# Altium footprint library ST Microelectronics STM32 G0.PcbLib: 22 footprints (part 2 of 2)
Each footprint in its own frame and in the unit in brackets; x right, y up, seen from the top. Pads: shape width x height; smd on the part's side, far side on the other; paste and mask are expansions set on the pad; w line width, h text height; cw(c..) or ccw(c..) is an arc to the next point about the centre after c.
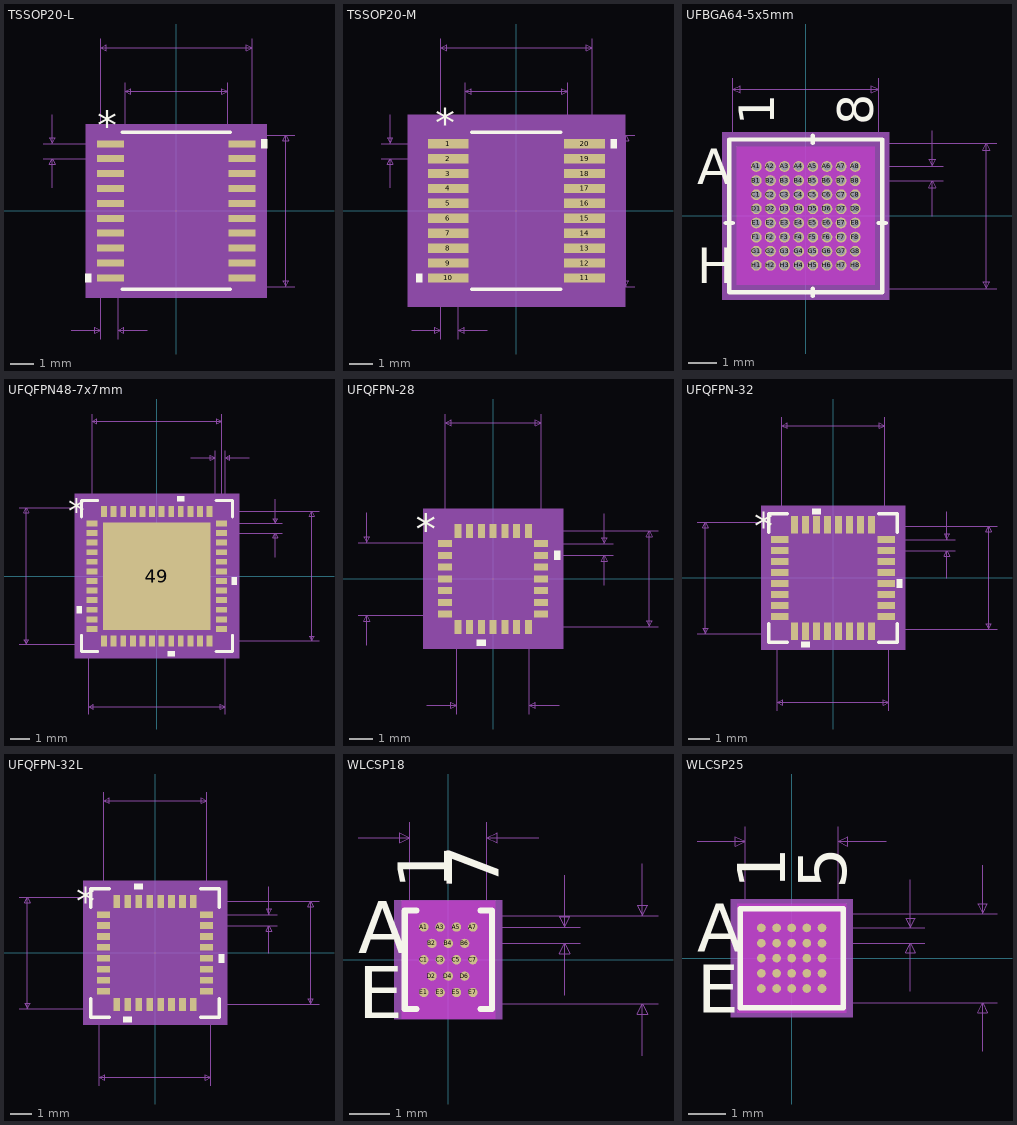
[diagram p1: the footprints below, top view; thin cyan lines are the x and y axes]

## TSSOP20-L [mil] "STM32 package, TSSOP20, 6.4 x 4.4mm"
pads (20):
  rect 46x12 smd paste+0 mask+0: 1(-113,115.16) 2(-113,89.57) 3(-113,63.98) 4(-113,38.39) 5(-113,12.8) 6(-113,-12.8) 7(-113,-38.39) 8(-113,-63.98) 9(-113,-89.57) 10(-113,-115.16) 11(113,-115.16) 12(113,-89.57) 13(113,-63.98) 14(113,-38.39) 15(113,-12.8) 16(113,12.8) 17(113,38.39) 18(113,63.98) 19(113,89.57) 20(113,115.16)
Top Overlay:
  region: 146,122.66 156,122.66 156,107.66 146,107.66
  region: -146,-107.66 -156,-107.66 -156,-122.66 -146,-122.66
  lines w6: -93,-135 93,-135 ; -93,135 93,135
  text "*" at -135.5,122.16 h50
Mechanical 5:
  region: 155,-149 -155,-149 -155,149 155,149
Mechanical 7:
  lines w1: -228,89.57 -113,89.57 ; -228,115.16 -113,115.16 ; -213,39.57 -213,89.57 ; -213,165.16 -213,115.16 ; -180,-205 -130,-205 ; -130,-220 -130,0 -130,295 ; -100,-220 -100,0 ; -88,0 -88,220 ; -50,-205 -100,-205 ; 0,-130 203,-130 ; 0,130 203,130 ; 88,0 88,220 ; 130,0 130,295 ; -213,89.57 -208,79.57 -218,79.57 -213,89.57 ; -213,115.16 -208,125.16 -218,125.16 -213,115.16 ; -130,-205 -140,-210 -140,-200 -130,-205 ; -130,280 -120,275 -120,285 -130,280 ; -130,280 130,280 ; -100,-205 -90,-210 -90,-200 -100,-205 ; -88,205 -78,200 -78,210 -88,205 ; -88,205 88,205 ; 88,205 78,200 78,210 88,205 ; 130,280 120,275 120,285 130,280 ; 188,-130 193,-120 183,-120 188,-130 ; 188,-130 188,130 ; 188,130 193,120 183,120 188,130
  text "0.03in/0.762mm" at -202.5,-250 h25
  text "0.026in/0.65mm" at -408,89.86 h25
  text "0.26in/6.604mm" at 208,-12.5 h25
  text "0.26in/6.604mm" at -87.5,300 h25
  text "0.176in/4.47mm" at -87.5,225 h25
  text "Alt 2 Padstyle: OX90Y60D30P" at -337.5,-630 h50
  text "Alt 1 Padstyle: OX60Y90D30P" at -337.5,-570 h50
  text "Pin One Padstyle: RX46Y12D0T" at -350,-390 h50
  text "Default Padstyle: RX46Y12D0T" at -350,-330 h50
Mechanical 13:
  lines w0: -12,130 ccw(c0,130) 12,130
  lines w1: -130,-121.16 -88,-121.16 -88,-109.16 -130,-109.16 -130,-121.16 ; -130,-95.57 -88,-95.57 -88,-83.57 -130,-83.57 -130,-95.57 ; -130,-69.98 -88,-69.98 -88,-57.98 -130,-57.98 -130,-69.98 ; -130,-44.39 -88,-44.39 -88,-32.39 -130,-32.39 -130,-44.39 ; -130,-18.8 -88,-18.8 -88,-6.8 -130,-6.8 -130,-18.8 ; -130,6.8 -88,6.8 -88,18.8 -130,18.8 -130,6.8 ; -130,32.39 -88,32.39 -88,44.39 -130,44.39 -130,32.39 ; -130,57.98 -88,57.98 -88,69.98 -130,69.98 -130,57.98 ; -130,83.57 -88,83.57 -88,95.57 -130,95.57 -130,83.57 ; -130,109.16 -88,109.16 -88,121.16 -130,121.16 -130,109.16 ; -88,-130 -88,130 88,130 88,-130 -88,-130 ; 88,-121.16 130,-121.16 130,-109.16 88,-109.16 88,-121.16 ; 88,-95.57 130,-95.57 130,-83.57 88,-83.57 88,-95.57 ; 88,-69.98 130,-69.98 130,-57.98 88,-57.98 88,-69.98 ; 88,-44.39 130,-44.39 130,-32.39 88,-32.39 88,-44.39 ; 88,-18.8 130,-18.8 130,-6.8 88,-6.8 88,-18.8 ; 88,6.8 130,6.8 130,18.8 88,18.8 88,6.8 ; 88,32.39 130,32.39 130,44.39 88,44.39 88,32.39 ; 88,57.98 130,57.98 130,69.98 88,69.98 88,57.98 ; 88,83.57 130,83.57 130,95.57 88,95.57 88,83.57 ; 88,109.16 130,109.16 130,121.16 88,121.16 88,109.16
  text "*" at -85.5,77 h50
Mechanical 15:
  region: -92,-125.16 -140,-125.16 -140,125.16 -92,125.16 -92,134 92,134 92,125.16 140,125.16 140,-125.16 92,-125.16 92,-134 -92,-134
  lines w6: -140,-125.16 -92,-125.16 -92,-134 92,-134 92,-125.16 140,-125.16 140,125.16 92,125.16 92,134 -92,134 -92,125.16 -140,125.16 -140,-125.16
3D body "TSSOP20-L.step": height 47.09, standoff 0, extent -129.99,-129.99 130.01,130.01
3D body: height 10, standoff 0, extent 0,0 10,10

## TSSOP20-M [mil] "STM32 package, TSSOP20, 6.4 x 4.4mm"
pads (20):
  rect 70x16 smd paste+0 mask+0: 1(-117,115.16) 2(-117,89.57) 3(-117,63.98) 4(-117,38.39) 5(-117,12.8) 6(-117,-12.8) 7(-117,-38.39) 8(-117,-63.98) 9(-117,-89.57) 10(-117,-115.16) 11(117,-115.16) 12(117,-89.57) 13(117,-63.98) 14(117,-38.39) 15(117,-12.8) 16(117,12.8) 17(117,38.39) 18(117,63.98) 19(117,89.57) 20(117,115.16)
Top Overlay:
  region: -162,-107.66 -172,-107.66 -172,-122.66 -162,-122.66
  region: 162,122.66 172,122.66 172,107.66 162,107.66
  lines w6: -76.4,-135 76.4,-135 ; -76.4,135 76.4,135
  text "*" at -139.5,126.16 h50
Mechanical 5:
  region: 187,-165 -187,-165 -187,165 187,165
Mechanical 7:
  lines w1: -232,89.57 -117,89.57 ; -232,115.16 -117,115.16 ; -217,39.57 -217,89.57 ; -217,165.16 -217,115.16 ; -180,-205 -130,-205 ; -130,-220 -130,0 -130,295 ; -100,-220 -100,0 ; -88,0 -88,220 ; -50,-205 -100,-205 ; 0,-130 203,-130 ; 0,130 203,130 ; 88,0 88,220 ; 130,0 130,295 ; -217,89.57 -222,79.57 -212,79.57 -217,89.57 ; -217,115.16 -222,125.16 -212,125.16 -217,115.16 ; -130,-205 -140,-200 -140,-210 -130,-205 ; -130,280 130,280 ; -130,280 -120,285 -120,275 -130,280 ; -100,-205 -90,-200 -90,-210 -100,-205 ; -88,205 88,205 ; -88,205 -78,210 -78,200 -88,205 ; 88,205 78,210 78,200 88,205 ; 130,280 120,285 120,275 130,280 ; 188,-130 188,130 ; 188,-130 183,-120 193,-120 188,-130 ; 188,130 183,120 193,120 188,130
  text "Default Padstyle: RX70Y16D0T" at -350,-330 h50
  text "Pin One Padstyle: RX70Y16D0T" at -350,-390 h50
  text "Alt 1 Padstyle: OX60Y90D30P" at -337.5,-570 h50
  text "Alt 2 Padstyle: OX90Y60D30P" at -337.5,-630 h50
  text "0.176in/4.47mm" at -87.5,225 h25
  text "0.26in/6.604mm" at -87.5,300 h25
  text "0.26in/6.604mm" at 208,-12.5 h25
  text "0.026in/0.65mm" at -412,89.86 h25
  text "0.03in/0.762mm" at -202.5,-250 h25
Mechanical 13:
  lines w0: -12,130 ccw(c0,130) 12,130
  lines w1: -130,-121.16 -130,-109.16 -88,-109.16 -88,-121.16 -130,-121.16 ; -130,-95.57 -130,-83.57 -88,-83.57 -88,-95.57 -130,-95.57 ; -130,-69.98 -130,-57.98 -88,-57.98 -88,-69.98 -130,-69.98 ; -130,-44.39 -130,-32.39 -88,-32.39 -88,-44.39 -130,-44.39 ; -130,-18.8 -130,-6.8 -88,-6.8 -88,-18.8 -130,-18.8 ; -130,6.8 -130,18.8 -88,18.8 -88,6.8 -130,6.8 ; -130,32.39 -130,44.39 -88,44.39 -88,32.39 -130,32.39 ; -130,57.98 -130,69.98 -88,69.98 -88,57.98 -130,57.98 ; -130,83.57 -130,95.57 -88,95.57 -88,83.57 -130,83.57 ; -130,109.16 -130,121.16 -88,121.16 -88,109.16 -130,109.16 ; -88,-130 88,-130 88,130 -88,130 -88,-130 ; 88,-121.16 88,-109.16 130,-109.16 130,-121.16 88,-121.16 ; 88,-95.57 88,-83.57 130,-83.57 130,-95.57 88,-95.57 ; 88,-69.98 88,-57.98 130,-57.98 130,-69.98 88,-69.98 ; 88,-44.39 88,-32.39 130,-32.39 130,-44.39 88,-44.39 ; 88,-18.8 88,-6.8 130,-6.8 130,-18.8 88,-18.8 ; 88,6.8 88,18.8 130,18.8 130,6.8 88,6.8 ; 88,32.39 88,44.39 130,44.39 130,32.39 88,32.39 ; 88,57.98 88,69.98 130,69.98 130,57.98 88,57.98 ; 88,83.57 88,95.57 130,95.57 130,83.57 88,83.57 ; 88,109.16 88,121.16 130,121.16 130,109.16 88,109.16
  text "*" at -85.5,77 h50
Mechanical 15:
  region: -108,-143.16 -172,-143.16 -172,143.16 -108,143.16 -108,150 108,150 108,143.16 172,143.16 172,-143.16 108,-143.16 108,-150 -108,-150
  lines w6: -172,-143.16 -172,143.16 -108,143.16 -108,150 108,150 108,143.16 172,143.16 172,-143.16 108,-143.16 108,-150 -108,-150 -108,-143.16 -172,-143.16
3D body: height 10, standoff 0, extent 0,0 10,10
3D body "TSSOP20-M.step": height 47.09, standoff 0, extent -129.99,-129.99 130.01,130.01

## UFBGA64-5x5mm [mil] "STM32 package, UFBGA64, 5 x 5mm"
pads (64):
  round 15 hole 11 mask+0: A1(-68.9,68.9) A2(-49.21,68.9) A3(-29.53,68.9) A4(-9.84,68.9) A5(9.84,68.9) A6(29.53,68.9) A7(49.21,68.9) A8(68.9,68.9) B1(-68.9,49.21) B2(-49.21,49.21) B3(-29.53,49.21) B4(-9.84,49.21) B5(9.84,49.21) B6(29.53,49.21) B7(49.21,49.21) B8(68.9,49.21) C1(-68.9,29.53) C2(-49.21,29.53) C3(-29.53,29.53) C4(-9.84,29.53) C5(9.84,29.53) C6(29.53,29.53) C7(49.21,29.53) C8(68.9,29.53) D1(-68.9,9.84) D2(-49.21,9.84) D3(-29.53,9.84) D4(-9.84,9.84) D5(9.84,9.84) D6(29.53,9.84) D7(49.21,9.84) D8(68.9,9.84) E1(-68.9,-9.84) E2(-49.21,-9.84) E3(-29.53,-9.84) E4(-9.84,-9.84) E5(9.84,-9.84) E6(29.53,-9.84) E7(49.21,-9.84) E8(68.9,-9.84) F1(-68.9,-29.53) F2(-49.21,-29.53) F3(-29.53,-29.53) F4(-9.84,-29.53) F5(9.84,-29.53) F6(29.53,-29.53) F7(49.21,-29.53) F8(68.9,-29.53) G1(-68.9,-49.21) G2(-49.21,-49.21) G3(-29.53,-49.21) G4(-9.84,-49.21) G5(9.84,-49.21) G6(29.53,-49.21) G7(49.21,-49.21) G8(68.9,-49.21) H1(-68.9,-68.9) H2(-49.21,-68.9) H3(-29.53,-68.9) H4(-9.84,-68.9) H5(9.84,-68.9) H6(29.53,-68.9) H7(49.21,-68.9) H8(68.9,-68.9)
Top Overlay:
  lines w6: -111.5,-9.84 -101.5,-9.84 ; 9.84,-111.5 9.84,-101.5 ; 9.84,101.5 9.84,111.5 ; 101.5,-9.84 111.5,-9.84 ; -106.5,-106.5 -106.5,106.5 106.5,106.5 106.5,-106.5 -106.5,-106.5
  text "8" at 93.9,126.5 h50
  text "1" at -43.9,126.5 h50
  text "H" at -151.5,-93.9 h50
  text "A" at -151.5,43.9 h50
Bottom Overlay:
  text "8" at 43.9,126.5 h50
  text "1" at -93.9,126.5 h50
  text "H" at -126.5,-93.9 h50
  text "A" at -126.5,43.9 h50
Keep-Out Layer:
  region: -96.24,-96.24 -96.24,96.24 96.24,96.24 96.24,-96.24
Mechanical 5:
  region: 116.5,-116.5 -116.5,-116.5 -116.5,116.5 116.5,116.5
Mechanical 7:
  lines w1: -101.5,0 -101.5,191.5 ; 0,-101.5 266.5,-101.5 ; 0,101.5 266.5,101.5 ; 68.9,49.21 191.5,49.21 ; 68.9,68.9 191.5,68.9 ; 101.5,0 101.5,191.5 ; 176.5,-0.79 176.5,49.21 ; 176.5,118.9 176.5,68.9 ; -101.5,176.5 -91.5,171.5 -91.5,181.5 -101.5,176.5 ; -101.5,176.5 101.5,176.5 ; 101.5,176.5 91.5,171.5 91.5,181.5 101.5,176.5 ; 176.5,49.21 181.5,39.21 171.5,39.21 176.5,49.21 ; 176.5,68.9 181.5,78.9 171.5,78.9 176.5,68.9 ; 251.5,-101.5 256.5,-91.5 246.5,-91.5 251.5,-101.5 ; 251.5,-101.5 251.5,101.5 ; 251.5,101.5 256.5,91.5 246.5,91.5 251.5,101.5
  text "0.203in/5.156mm" at 271.5,-12.5 h25
  text "0.203in/5.156mm" at -93.75,196.5 h25
  text "0.02in/0.5mm" at 196.5,46.56 h25
  text "Default Padstyle: EX15Y15D11P" at -362.5,-301.5 h50
Mechanical 13:
  lines w1: -101.5,91.66 -91.66,101.5 ; -101.5,-101.5 -101.5,101.5 101.5,101.5 101.5,-101.5 -101.5,-101.5
  text "8" at 93.9,126.5 h50
  text "1" at -43.9,126.5 h50
  text "H" at -151.5,-93.9 h50
  text "A" at -151.5,43.9 h50
Mechanical 15:
  region: 111.5,-111.5 -111.5,-111.5 -111.5,111.5 111.5,111.5
  lines w6: -111.5,-111.5 111.5,-111.5 111.5,111.5 -111.5,111.5 -111.5,-111.5
3D body "UFBGA64-5x5mm.step": height 24.09, standoff -0.02, extent -101.49,-101.49 101.5,101.5
3D body: height 10, standoff 0, extent 0,0 10,10

## UFQFPN48-7x7mm [mil] "STM32 package, UFQFPN48, 7 x 7mm"
pads (49):
  rect 22x12 smd: 1(-132.87,108.3) 2(-132.87,88.61) 3(-132.87,68.92) 4(-132.87,49.23) 5(-132.87,29.54) 6(-132.87,9.85) 7(-132.87,-9.85) 8(-132.87,-29.54) 9(-132.87,-49.23) 10(-132.87,-68.92) 11(-132.87,-88.61) 12(-132.87,-108.3) 25(132.87,-108.3) 26(132.87,-88.61) 27(132.87,-68.92) 28(132.87,-49.23) 29(132.87,-29.54) 30(132.87,-9.85) 31(132.87,9.85) 32(132.87,29.54) 33(132.87,49.23) 34(132.87,68.92) 35(132.87,88.61) 36(132.87,108.3)
  rect 12x22 smd: 13(-108.3,-132.87) 14(-88.61,-132.87) 15(-68.92,-132.87) 16(-49.23,-132.87) 17(-29.54,-132.87) 18(-9.85,-132.87) 19(9.85,-132.87) 20(29.54,-132.87) 21(49.23,-132.87) 22(68.92,-132.87) 23(88.61,-132.87) 24(108.3,-132.87) 37(108.3,132.87) 38(88.61,132.87) 39(68.92,132.87) 40(49.23,132.87) 41(29.54,132.87) 42(9.85,132.87) 43(-9.85,132.87) 44(-29.54,132.87) 45(-49.23,132.87) 46(-68.92,132.87) 47(-88.61,132.87) 48(-108.3,132.87)
  rect 220x220 smd paste-110: 49(0,0)
Top Overlay:
  region: 56.73,153.87 41.73,153.87 41.73,163.87 56.73,163.87
  region: 153.87,-2.35 163.87,-2.35 163.87,-17.34 153.87,-17.34
  region: 37.03,-153.87 22.04,-153.87 22.04,-163.87 37.03,-163.87
  region: -153.87,-61.41 -163.87,-61.41 -163.87,-76.42 -153.87,-76.42
  lines w6: -155,-121.21 -155,-155 -121.21,-155 ; -155,121.21 -155,155 -121.21,155 ; 121.21,-155 155,-155 155,-121.21 ; 121.21,155 155,155 155,121.21
  text "*" at -181.37,108.14 h50
Top Paste:
  drawing of 64 lines, arcs and shapes, not listed
Top Solder:
  drawing of 48 lines, arcs and shapes, not listed
Mechanical 5:
  region: 168.87,-168.87 -168.87,-168.87 -168.87,168.87 168.87,168.87
Mechanical 7:
  lines w1: -282.87,-140 140,-140 ; -282.87,140 140,140 140,-282.87 ; -140,-282.87 -140,140 ; -132.87,108.3 -132.87,332.87 ; 70,242.87 120,242.87 ; 108.3,-132.87 332.87,-132.87 ; 108.3,132.87 332.87,132.87 ; 120,108.3 120,257.87 ; 132.87,88.61 257.87,88.61 ; 132.87,332.87 132.87,108.3 257.87,108.3 ; 140,108.3 140,257.87 ; 190,242.87 140,242.87 ; 242.87,38.6 242.87,88.61 ; 242.87,158.29 242.87,108.3 ; -267.87,-140 -262.87,-130 -272.87,-130 -267.87,-140 ; -267.87,-140 -267.87,140 ; -267.87,140 -262.87,130 -272.87,130 -267.87,140 ; -140,-267.87 -130,-272.87 -130,-262.87 -140,-267.87 ; -140,-267.87 140,-267.87 ; -132.87,317.87 -122.87,312.87 -122.87,322.87 -132.87,317.87 ; -132.87,317.87 132.87,317.87 ; 120,242.87 110,237.87 110,247.87 120,242.87 ; 132.87,317.87 122.87,312.87 122.87,322.87 132.87,317.87 ; 140,-267.87 130,-272.87 130,-262.87 140,-267.87 ; 140,242.87 150,237.87 150,247.87 140,242.87 ; 242.87,88.61 247.87,78.61 237.87,78.61 242.87,88.61 ; 242.87,108.3 247.87,118.3 237.87,118.3 242.87,108.3 ; 317.87,-132.87 322.87,-122.87 312.87,-122.87 317.87,-132.87 ; 317.87,-132.87 317.87,132.87 ; 317.87,132.87 322.87,122.87 312.87,122.87 317.87,132.87
  text "0.28in/7.112mm" at -87.5,-312.87 h25
  text "0.28in/7.112mm" at -462.87,-12.5 h25
  text "0.266in/6.75mm" at 337.87,-12.5 h25
  text "0.266in/6.75mm" at -87.5,337.87 h25
  text "0.02in/0.508mm" at 42.5,262.87 h25
  text "0.02in/0.5mm" at 262.87,85.95 h25
  text "Alt 2 Padstyle: OX90Y60D30P" at -337.5,-632.87 h50
  text "Alt 1 Padstyle: OX60Y90D30P" at -337.5,-572.87 h50
  text "Heat Tab Padstyle: RX220Y220D0T" at -387.5,-452.87 h50
  text "Default Padstyle: RX12Y22D0T" at -350,-392.87 h50
Mechanical 13:
  lines w1: -140,90 -90,140 ; -140,-140 -140,140 140,140 140,-140 -140,-140 ; -140,-114.3 -140,-102.3 -140,-114.3 ; -140,-94.61 -140,-82.61 -140,-94.61 ; -140,-74.92 -140,-62.91 -140,-74.92 ; -140,-55.23 -140,-43.23 -140,-55.23 ; -140,-35.53 -140,-23.54 -140,-35.53 ; -140,-15.85 -140,-3.85 -140,-15.85 ; -140,3.85 -140,15.85 -140,3.85 ; -140,23.54 -140,35.53 -140,23.54 ; -140,43.23 -140,55.23 -140,43.23 ; -140,62.91 -140,74.92 -140,62.91 ; -140,82.61 -140,94.61 -140,82.61 ; -140,102.3 -140,114.3 -140,102.3 ; -114.3,-140 -102.3,-140 -114.3,-140 ; -114.3,140 -102.3,140 -114.3,140 ; -94.61,-140 -82.61,-140 -94.61,-140 ; -94.61,140 -82.61,140 -94.61,140 ; -74.92,-140 -62.91,-140 -74.92,-140 ; -74.92,140 -62.91,140 -74.92,140 ; -55.23,-140 -43.23,-140 -55.23,-140 ; -55.23,140 -43.23,140 -55.23,140 ; -35.53,-140 -23.54,-140 -35.53,-140 ; -35.53,140 -23.54,140 -35.53,140 ; -15.85,-140 -3.85,-140 -15.85,-140 ; -15.85,140 -3.85,140 -15.85,140 ; 3.85,-140 15.85,-140 3.85,-140 ; 3.85,140 15.85,140 3.85,140 ; 23.54,-140 35.53,-140 23.54,-140 ; 23.54,140 35.53,140 23.54,140 ; 43.23,-140 55.23,-140 43.23,-140 ; 43.23,140 55.23,140 43.23,140 ; 62.91,-140 74.92,-140 62.91,-140 ; 62.91,140 74.92,140 62.91,140 ; 82.61,-140 94.61,-140 82.61,-140 ; 82.61,140 94.61,140 82.61,140 ; 102.3,-140 114.3,-140 102.3,-140 ; 102.3,140 114.3,140 102.3,140 ; 140,-114.3 140,-102.3 140,-114.3 ; 140,-94.61 140,-82.61 140,-94.61 ; 140,-74.92 140,-62.91 140,-74.92 ; 140,-55.23 140,-43.23 140,-55.23 ; 140,-35.53 140,-23.54 140,-35.53 ; 140,-15.85 140,-3.85 140,-15.85 ; 140,3.85 140,15.85 140,3.85 ; 140,23.54 140,35.53 140,23.54 ; 140,43.23 140,55.23 140,43.23 ; 140,62.91 140,74.92 140,62.91 ; 140,82.61 140,94.61 140,82.61 ; 140,102.3 140,114.3 140,102.3
  text "*" at -124.37,93.14 h50
Mechanical 15:
  region: -128.29,-150 -150,-150 -150,-128.29 -148.87,-128.29 -148.87,128.29 -150,128.29 -150,150 -128.29,150 -128.29,148.87 128.29,148.87 128.29,150 150,150 150,128.29 148.87,128.29 148.87,-128.29 150,-128.29 150,-150 128.29,-150 128.29,-148.87 -128.29,-148.87
  lines w6: -150,-150 -128.29,-150 -128.29,-148.87 128.29,-148.87 128.29,-150 150,-150 150,-128.29 148.87,-128.29 148.87,128.29 150,128.29 150,150 128.29,150 128.29,148.87 -128.29,148.87 -128.29,150 -150,150 -150,128.29 -148.87,128.29 -148.87,-128.29 -150,-128.29 -150,-150
3D body "UFQFPN-48.stp": height 25.59, standoff 0, extent -139.76,-139.76 139.77,139.77

## UFQFPN-28 [mil] "STM32 package, UFQFPN28, 4 x 4mm"
pads (28):
  rect 23.62x11.81 smd paste-5.91 mask+0: 1(-80.5,59.1) 2(-80.5,39.4) 3(-80.5,19.7) 4(-80.5,0) 5(-80.5,-19.7) 6(-80.5,-39.4) 7(-80.5,-59.1) 15(80.5,-59.1) 16(80.5,-39.4) 17(80.5,-19.7) 18(80.5,0) 19(80.5,19.7) 20(80.5,39.4) 21(80.5,59.1)
  rect 11.81x23.62 smd paste-5.91 mask+0: 8(-59.1,-80.5) 9(-39.4,-80.5) 10(-19.7,-80.5) 11(0,-80.5) 12(19.7,-80.5) 13(39.4,-80.5) 14(59.1,-80.5) 22(59.1,80.5) 23(39.4,80.5) 24(19.7,80.5) 25(0,80.5) 26(-19.7,80.5) 27(-39.4,80.5) 28(-59.1,80.5)
Top Overlay:
  region: -12.2,-102.31 -27.2,-102.31 -27.2,-112.31 -12.2,-112.31
  region: 102.31,46.9 112.31,46.9 112.31,31.9 102.31,31.9
  text "*" at -129.81,58.95 h50
Top Paste:
  region: -68.69,65 -92.31,65 -92.31,53.2 -68.69,53.2
  region: -68.69,45.3 -92.31,45.3 -92.31,33.49 -68.69,33.49
  region: -68.69,25.61 -92.31,25.61 -92.31,13.79 -68.69,13.79
  region: -68.69,5.91 -92.31,5.91 -92.31,-5.91 -68.69,-5.91
  region: -68.69,-13.79 -92.31,-13.79 -92.31,-25.61 -68.69,-25.61
  region: -68.69,-33.49 -92.31,-33.49 -92.31,-45.3 -68.69,-45.3
  region: -68.69,-53.2 -92.31,-53.2 -92.31,-65 -68.69,-65
  region: -53.2,-68.69 -65,-68.69 -65,-92.31 -53.2,-92.31
  region: -33.49,-68.69 -45.3,-68.69 -45.3,-92.31 -33.49,-92.31
  region: -13.79,-68.69 -25.61,-68.69 -25.61,-92.31 -13.79,-92.31
  region: 5.91,-68.69 -5.91,-68.69 -5.91,-92.31 5.91,-92.31
  region: 25.61,-68.69 13.79,-68.69 13.79,-92.31 25.61,-92.31
  region: 45.3,-68.69 33.49,-68.69 33.49,-92.31 45.3,-92.31
  region: 65,-68.69 53.2,-68.69 53.2,-92.31 65,-92.31
  region: 92.31,-53.2 68.69,-53.2 68.69,-65 92.31,-65
  region: 92.31,-33.49 68.69,-33.49 68.69,-45.3 92.31,-45.3
  region: 92.31,-13.79 68.69,-13.79 68.69,-25.61 92.31,-25.61
  region: 92.31,5.91 68.69,5.91 68.69,-5.91 92.31,-5.91
  region: 92.31,25.61 68.69,25.61 68.69,13.79 92.31,13.79
  region: 92.31,45.3 68.69,45.3 68.69,33.49 92.31,33.49
  region: 92.31,65 68.69,65 68.69,53.2 92.31,53.2
  region: 65,92.31 53.2,92.31 53.2,68.69 65,68.69
  region: 45.3,92.31 33.49,92.31 33.49,68.69 45.3,68.69
  region: 25.61,92.31 13.79,92.31 13.79,68.69 25.61,68.69
  region: 5.91,92.31 -5.91,92.31 -5.91,68.69 5.91,68.69
  region: -13.79,92.31 -25.61,92.31 -25.61,68.69 -13.79,68.69
  region: -33.49,92.31 -45.3,92.31 -45.3,68.69 -33.49,68.69
  region: -53.2,92.31 -65,92.31 -65,68.69 -53.2,68.69
  region: -3.94,63.98 -63.98,63.98 -63.98,3.94 -3.94,3.94
  region: -3.94,-3.94 -63.98,-3.94 -63.98,-63.98 -3.94,-63.98
  region: 63.98,63.98 3.94,63.98 3.94,3.94 63.98,3.94
  region: 63.98,-3.94 3.94,-3.94 3.94,-63.98 63.98,-63.98
  region: -3.94,63.98 -63.98,63.98 -63.98,3.94 -3.94,3.94
  region: -3.94,-3.94 -63.98,-3.94 -63.98,-63.98 -3.94,-63.98
  region: 63.98,63.98 3.94,63.98 3.94,3.94 63.98,3.94
  region: 63.98,-3.94 3.94,-3.94 3.94,-63.98 63.98,-63.98
Top Solder:
  region: -68.69,65 -92.31,65 -92.31,53.2 -68.69,53.2
  region: -68.69,45.3 -92.31,45.3 -92.31,33.49 -68.69,33.49
  region: -68.69,25.61 -92.31,25.61 -92.31,13.79 -68.69,13.79
  region: -68.69,5.91 -92.31,5.91 -92.31,-5.91 -68.69,-5.91
  region: -68.69,-13.79 -92.31,-13.79 -92.31,-25.61 -68.69,-25.61
  region: -68.69,-33.49 -92.31,-33.49 -92.31,-45.3 -68.69,-45.3
  region: -68.69,-53.2 -92.31,-53.2 -92.31,-65 -68.69,-65
  region: -53.2,-68.69 -65,-68.69 -65,-92.31 -53.2,-92.31
  region: -33.49,-68.69 -45.3,-68.69 -45.3,-92.31 -33.49,-92.31
  region: -13.79,-68.69 -25.61,-68.69 -25.61,-92.31 -13.79,-92.31
  region: 5.91,-68.69 -5.91,-68.69 -5.91,-92.31 5.91,-92.31
  region: 25.61,-68.69 13.79,-68.69 13.79,-92.31 25.61,-92.31
  region: 45.3,-68.69 33.49,-68.69 33.49,-92.31 45.3,-92.31
  region: 65,-68.69 53.2,-68.69 53.2,-92.31 65,-92.31
  region: 92.31,-53.2 68.69,-53.2 68.69,-65 92.31,-65
  region: 92.31,-33.49 68.69,-33.49 68.69,-45.3 92.31,-45.3
  region: 92.31,-13.79 68.69,-13.79 68.69,-25.61 92.31,-25.61
  region: 92.31,5.91 68.69,5.91 68.69,-5.91 92.31,-5.91
  region: 92.31,25.61 68.69,25.61 68.69,13.79 92.31,13.79
  region: 92.31,45.3 68.69,45.3 68.69,33.49 92.31,33.49
  region: 92.31,65 68.69,65 68.69,53.2 92.31,53.2
  region: 65,92.31 53.2,92.31 53.2,68.69 65,68.69
  region: 45.3,92.31 33.49,92.31 33.49,68.69 45.3,68.69
  region: 25.61,92.31 13.79,92.31 13.79,68.69 25.61,68.69
  region: 5.91,92.31 -5.91,92.31 -5.91,68.69 5.91,68.69
  region: -13.79,92.31 -25.61,92.31 -25.61,68.69 -13.79,68.69
  region: -33.49,92.31 -45.3,92.31 -45.3,68.69 -33.49,68.69
  region: -53.2,92.31 -65,92.31 -65,68.69 -53.2,68.69
Mechanical 5:
  region: 117.31,-117.31 -117.31,-117.31 -117.31,117.31 117.31,117.31
Mechanical 7:
  lines w1: -226.4,-61 61,-61 ; -226.4,61 61,61 61,-226.4 ; -211.4,-111 -211.4,-61 ; -211.4,111 -211.4,61 ; -111,-211.4 -61,-211.4 ; -80.5,59.1 -80.5,276.4 ; -61,-226.4 -61,61 ; 59.1,-80.5 276.4,-80.5 ; 59.1,80.5 276.4,80.5 ; 80.5,39.4 201.4,39.4 ; 80.5,276.4 80.5,59.1 201.4,59.1 ; 111,-211.4 61,-211.4 ; 186.4,-10.6 186.4,39.4 ; 186.4,109.1 186.4,59.1 ; -211.4,-61 -216.4,-71 -206.4,-71 -211.4,-61 ; -211.4,61 -216.4,71 -206.4,71 -211.4,61 ; -80.5,261.4 80.5,261.4 ; -80.5,261.4 -70.5,266.4 -70.5,256.4 -80.5,261.4 ; -61,-211.4 -71,-206.4 -71,-216.4 -61,-211.4 ; 61,-211.4 71,-206.4 71,-216.4 61,-211.4 ; 80.5,261.4 70.5,266.4 70.5,256.4 80.5,261.4 ; 186.4,39.4 181.4,29.4 191.4,29.4 186.4,39.4 ; 186.4,59.1 181.4,69.1 191.4,69.1 186.4,59.1 ; 261.4,-80.5 261.4,80.5 ; 261.4,-80.5 256.4,-70.5 266.4,-70.5 261.4,-80.5 ; 261.4,80.5 256.4,70.5 266.4,70.5 261.4,80.5
  text "Default Padstyle: RX11p81Y23p62D0T" at -425,-336.4 h50
  text "Alt 1 Padstyle: OX60Y90D30P" at -337.5,-516.4 h50
  text "Alt 2 Padstyle: OX90Y60D30P" at -337.5,-576.4 h50
  text "0.02in/0.5mm" at 206.4,36.75 h25
  text "0.161in/4.089mm" at -93.75,281.4 h25
  text "0.161in/4.089mm" at 281.4,-12.5 h25
  text "0.122in/3.099mm" at -418.9,-12.5 h25
  text "0.122in/3.099mm" at -93.75,-256.4 h25
Mechanical 13:
  lines w1: -61,11 -11,61 ; -61,-61 61,-61 61,61 -61,61 -61,-61
  text "*" at -71.19,43.95 h50
Mechanical 15:
  region: -75,-71 -71,-71 -71,-75 -102.31,-75 -102.31,75 -71,75 -71,71 -75,71 -75,102.31 75,102.31 75,71 71,71 71,75 102.31,75 102.31,-75 71,-75 71,-71 75,-71 75,-102.31 -75,-102.31
  lines w6: -102.31,-75 -71,-75 -71,-71 -75,-71 -75,-102.31 75,-102.31 75,-71 71,-71 71,-75 102.31,-75 102.31,75 71,75 71,71 75,71 75,102.31 -75,102.31 -75,71 -71,71 -71,75 -102.31,75 -102.31,-75
3D body: height 10, standoff 0, extent 0,0 10,10
3D body "UFQFPN-28.step": height 22.09, standoff 0, extent -68.7,-68.69 68.71,68.71

## UFQFPN-32 [mm] "STM32 package, UFQFPN32, 5 x 5mm"
pads (32):
  rect 0.8x0.32 smd paste-0.15 mask+0: 1(-2.425,1.75) 2(-2.425,1.25) 3(-2.425,0.75) 4(-2.425,0.25) 5(-2.425,-0.25) 6(-2.425,-0.75) 7(-2.425,-1.25) 8(-2.425,-1.75) 17(2.425,-1.75) 18(2.425,-1.25) 19(2.425,-0.75) 20(2.425,-0.25) 21(2.425,0.25) 22(2.425,0.75) 23(2.425,1.25) 24(2.425,1.75)
  rect 0.32x0.8 smd paste-0.15 mask+0: 9(-1.75,-2.425) 10(-1.25,-2.425) 11(-0.75,-2.425) 12(-0.25,-2.425) 13(0.25,-2.425) 14(0.75,-2.425) 15(1.25,-2.425) 16(1.75,-2.425) 25(1.75,2.425) 26(1.25,2.425) 27(0.75,2.425) 28(0.25,2.425) 29(-0.25,2.425) 30(-0.75,2.425) 31(-1.25,2.425) 32(-1.75,2.425)
Top Overlay:
  region: -0.56,2.904 -0.941,2.904 -0.941,3.158 -0.56,3.158
  region: 2.904,-0.059 3.158,-0.059 3.158,-0.44 2.904,-0.44
  region: -1.06,-2.904 -1.441,-2.904 -1.441,-3.158 -1.06,-3.158
  lines w0.152: -2.931,-2.078 -2.931,-2.931 -2.078,-2.931 ; -2.931,2.078 -2.931,2.931 -2.078,2.931 ; 2.078,-2.931 2.931,-2.931 2.931,-2.078 ; 2.078,2.931 2.931,2.931 2.931,2.078
  text "*" at -3.602,1.746 h1.27
Top Paste:
  region: -1.6,2.65 -1.9,2.65 -1.9,2.05 -1.6,2.05
  region: -1.1,2.65 -1.4,2.65 -1.4,2.05 -1.1,2.05
  region: -0.6,2.65 -0.9,2.65 -0.9,2.05 -0.6,2.05
  region: -0.1,2.65 -0.4,2.65 -0.4,2.05 -0.1,2.05
  region: 0.4,2.65 0.1,2.65 0.1,2.05 0.4,2.05
  region: 0.9,2.65 0.6,2.65 0.6,2.05 0.9,2.05
  region: 1.4,2.65 1.1,2.65 1.1,2.05 1.4,2.05
  region: 1.9,2.65 1.6,2.65 1.6,2.05 1.9,2.05
  region: 2.65,1.9 2.05,1.9 2.05,1.6 2.65,1.6
  region: 2.65,1.4 2.05,1.4 2.05,1.1 2.65,1.1
  region: 2.65,0.9 2.05,0.9 2.05,0.6 2.65,0.6
  region: 2.65,0.4 2.05,0.4 2.05,0.1 2.65,0.1
  region: 2.65,-0.1 2.05,-0.1 2.05,-0.4 2.65,-0.4
  region: 2.65,-0.6 2.05,-0.6 2.05,-0.9 2.65,-0.9
  region: 2.65,-1.1 2.05,-1.1 2.05,-1.4 2.65,-1.4
  region: 2.65,-1.6 2.05,-1.6 2.05,-1.9 2.65,-1.9
  region: 1.9,-2.05 1.6,-2.05 1.6,-2.65 1.9,-2.65
  region: 1.4,-2.05 1.1,-2.05 1.1,-2.65 1.4,-2.65
  region: 0.9,-2.05 0.6,-2.05 0.6,-2.65 0.9,-2.65
  region: 0.4,-2.05 0.1,-2.05 0.1,-2.65 0.4,-2.65
  region: -0.1,-2.05 -0.4,-2.05 -0.4,-2.65 -0.1,-2.65
  region: -0.6,-2.05 -0.9,-2.05 -0.9,-2.65 -0.6,-2.65
  region: -1.1,-2.05 -1.4,-2.05 -1.4,-2.65 -1.1,-2.65
  region: -1.6,-2.05 -1.9,-2.05 -1.9,-2.65 -1.6,-2.65
  region: -2.05,-1.6 -2.65,-1.6 -2.65,-1.9 -2.05,-1.9
  region: -2.05,-1.1 -2.65,-1.1 -2.65,-1.4 -2.05,-1.4
  region: -2.05,-0.6 -2.65,-0.6 -2.65,-0.9 -2.05,-0.9
  region: -2.05,-0.1 -2.65,-0.1 -2.65,-0.4 -2.05,-0.4
  region: -2.05,0.4 -2.65,0.4 -2.65,0.1 -2.05,0.1
  region: -2.05,0.9 -2.65,0.9 -2.65,0.6 -2.05,0.6
  region: -2.05,1.4 -2.65,1.4 -2.65,1.1 -2.05,1.1
  region: -2.05,1.9 -2.65,1.9 -2.65,1.6 -2.05,1.6
Top Solder:
  region: -1.6,2.65 -1.9,2.65 -1.9,2.05 -1.6,2.05
  region: -1.1,2.65 -1.4,2.65 -1.4,2.05 -1.1,2.05
  region: -0.6,2.65 -0.9,2.65 -0.9,2.05 -0.6,2.05
  region: -0.1,2.65 -0.4,2.65 -0.4,2.05 -0.1,2.05
  region: 0.4,2.65 0.1,2.65 0.1,2.05 0.4,2.05
  region: 0.9,2.65 0.6,2.65 0.6,2.05 0.9,2.05
  region: 1.4,2.65 1.1,2.65 1.1,2.05 1.4,2.05
  region: 1.9,2.65 1.6,2.65 1.6,2.05 1.9,2.05
  region: 2.65,1.9 2.05,1.9 2.05,1.6 2.65,1.6
  region: 2.65,1.4 2.05,1.4 2.05,1.1 2.65,1.1
  region: 2.65,0.9 2.05,0.9 2.05,0.6 2.65,0.6
  region: 2.65,0.4 2.05,0.4 2.05,0.1 2.65,0.1
  region: 2.65,-0.1 2.05,-0.1 2.05,-0.4 2.65,-0.4
  region: 2.65,-0.6 2.05,-0.6 2.05,-0.9 2.65,-0.9
  region: 2.65,-1.1 2.05,-1.1 2.05,-1.4 2.65,-1.4
  region: 2.65,-1.6 2.05,-1.6 2.05,-1.9 2.65,-1.9
  region: 1.9,-2.05 1.6,-2.05 1.6,-2.65 1.9,-2.65
  region: 1.4,-2.05 1.1,-2.05 1.1,-2.65 1.4,-2.65
  region: 0.9,-2.05 0.6,-2.05 0.6,-2.65 0.9,-2.65
  region: 0.4,-2.05 0.1,-2.05 0.1,-2.65 0.4,-2.65
  region: -0.1,-2.05 -0.4,-2.05 -0.4,-2.65 -0.1,-2.65
  region: -0.6,-2.05 -0.9,-2.05 -0.9,-2.65 -0.6,-2.65
  region: -1.1,-2.05 -1.4,-2.05 -1.4,-2.65 -1.1,-2.65
  region: -1.6,-2.05 -1.9,-2.05 -1.9,-2.65 -1.6,-2.65
  region: -2.05,-1.6 -2.65,-1.6 -2.65,-1.9 -2.05,-1.9
  region: -2.05,-1.1 -2.65,-1.1 -2.65,-1.4 -2.05,-1.4
  region: -2.05,-0.6 -2.65,-0.6 -2.65,-0.9 -2.05,-0.9
  region: -2.05,-0.1 -2.65,-0.1 -2.65,-0.4 -2.05,-0.4
  region: -2.05,0.4 -2.65,0.4 -2.65,0.1 -2.05,0.1
  region: -2.05,0.9 -2.65,0.9 -2.65,0.6 -2.05,0.6
  region: -2.05,1.4 -2.65,1.4 -2.65,1.1 -2.05,1.1
  region: -2.05,1.9 -2.65,1.9 -2.65,1.6 -2.05,1.6
Mechanical 5:
  region: 3.285,-3.285 -3.285,-3.285 -3.285,3.285 3.285,3.285
Mechanical 7:
  lines w0.025: -6.206,-2.55 2.55,-2.55 ; -6.206,2.55 2.55,2.55 2.55,-6.056 ; -2.55,-6.056 -2.55,2.55 ; -2.35,1.75 -2.35,7.326 ; 1.75,-2.35 7.476,-2.35 ; 1.75,2.35 7.476,2.35 ; 2.35,1.25 5.571,1.25 ; 2.35,7.326 2.35,1.75 5.571,1.75 ; 5.19,-0.02 5.19,1.25 ; 5.19,3.02 5.19,1.75 ; -5.825,-2.55 -5.698,-2.296 -5.952,-2.296 -5.825,-2.55 ; -5.825,-2.55 -5.825,2.55 ; -5.825,2.55 -5.698,2.296 -5.952,2.296 -5.825,2.55 ; -2.55,-5.675 -2.296,-5.802 -2.296,-5.548 -2.55,-5.675 ; -2.55,-5.675 2.55,-5.675 ; -2.35,6.945 -2.096,6.818 -2.096,7.072 -2.35,6.945 ; -2.35,6.945 2.35,6.945 ; 2.35,6.945 2.096,6.818 2.096,7.072 2.35,6.945 ; 2.55,-5.675 2.296,-5.802 2.296,-5.548 2.55,-5.675 ; 5.19,1.25 5.317,0.996 5.063,0.996 5.19,1.25 ; 5.19,1.75 5.317,2.004 5.063,2.004 5.19,1.75 ; 7.095,-2.35 7.222,-2.096 6.968,-2.096 7.095,-2.35 ; 7.095,-2.35 7.095,2.35 ; 7.095,2.35 7.222,2.096 6.968,2.096 7.095,2.35
  text "0.201in/5.1mm" at -2.064,-6.818 h0.64
  text "0.201in/5.1mm" at -10.46,-0.318 h0.64
  text "0.185in/4.7mm" at 7.603,-0.318 h0.64
  text "0.185in/4.7mm" at -2.064,7.453 h0.64
  text "0.02in/0.5mm" at 5.698,1.182 h0.64
  text "Alt 2 Padstyle: OX60Y90D30P" at -8.572,-14.946 h1.27
  text "Alt 1 Padstyle: OX90Y60D30P" at -8.572,-13.422 h1.27
  text "Default Padstyle: RX23p62Y11p81D0T" at -10.795,-8.85 h1.27
Mechanical 13:
  lines w0.025: -2.55,1.28 -1.28,2.55 ; -2.55,-2.55 -2.55,2.55 2.55,2.55 2.55,-2.55 -2.55,-2.55
  text "*" at -2.114,1.365 h1.27
Mechanical 15:
  region: -2.154,-2.804 -2.804,-2.804 -2.804,-2.154 -2.904,-2.154 -2.904,2.154 -2.804,2.154 -2.804,2.804 -2.154,2.804 -2.154,2.904 2.154,2.904 2.154,2.804 2.804,2.804 2.804,2.154 2.904,2.154 2.904,-2.154 2.804,-2.154 2.804,-2.804 2.154,-2.804 2.154,-2.904 -2.154,-2.904
  lines w0.152: -2.904,-2.154 -2.904,2.154 -2.804,2.154 -2.804,2.804 -2.154,2.804 -2.154,2.904 2.154,2.904 2.154,2.804 2.804,2.804 2.804,2.154 2.904,2.154 2.904,-2.154 2.804,-2.154 2.804,-2.804 2.154,-2.804 2.154,-2.904 -2.154,-2.904 -2.154,-2.804 -2.804,-2.804 -2.804,-2.154 -2.904,-2.154
3D body: height 0.25, standoff 0, extent 0,0 0.254,0.254
3D body "UFQFPN-32.step": height 1.4, standoff 0, extent -2.601,-2.601 2.601,2.601

## UFQFPN-32L [mm] "STM32 package, UFQFPN32, 5 x 5mm"
pads (32):
  rect 0.6x0.3 smd paste-0.15 mask+0: 1(-2.35,1.75) 2(-2.35,1.25) 3(-2.35,0.75) 4(-2.35,0.25) 5(-2.35,-0.25) 6(-2.35,-0.75) 7(-2.35,-1.25) 8(-2.35,-1.75) 17(2.35,-1.75) 18(2.35,-1.25) 19(2.35,-0.75) 20(2.35,-0.25) 21(2.35,0.25) 22(2.35,0.75) 23(2.35,1.25) 24(2.35,1.75)
  rect 0.3x0.6 smd paste-0.15 mask+0: 9(-1.75,-2.35) 10(-1.25,-2.35) 11(-0.75,-2.35) 12(-0.25,-2.35) 13(0.25,-2.35) 14(0.75,-2.35) 15(1.25,-2.35) 16(1.75,-2.35) 25(1.75,2.35) 26(1.25,2.35) 27(0.75,2.35) 28(0.25,2.35) 29(-0.25,2.35) 30(-0.75,2.35) 31(-1.25,2.35) 32(-1.75,2.35)
Top Overlay:
  region: -0.56,2.904 -0.941,2.904 -0.941,3.158 -0.56,3.158
  region: 2.904,-0.059 3.158,-0.059 3.158,-0.44 2.904,-0.44
  region: -1.06,-2.904 -1.441,-2.904 -1.441,-3.158 -1.06,-3.158
  lines w0.152: -2.931,-2.078 -2.931,-2.931 -2.078,-2.931 ; -2.931,2.078 -2.931,2.931 -2.078,2.931 ; 2.078,-2.931 2.931,-2.931 2.931,-2.078 ; 2.078,2.931 2.931,2.931 2.931,2.078
  text "*" at -3.602,1.746 h1.27
Top Paste:
  region: -1.6,2.65 -1.9,2.65 -1.9,2.05 -1.6,2.05
  region: -1.1,2.65 -1.4,2.65 -1.4,2.05 -1.1,2.05
  region: -0.6,2.65 -0.9,2.65 -0.9,2.05 -0.6,2.05
  region: -0.1,2.65 -0.4,2.65 -0.4,2.05 -0.1,2.05
  region: 0.4,2.65 0.1,2.65 0.1,2.05 0.4,2.05
  region: 0.9,2.65 0.6,2.65 0.6,2.05 0.9,2.05
  region: 1.4,2.65 1.1,2.65 1.1,2.05 1.4,2.05
  region: 1.9,2.65 1.6,2.65 1.6,2.05 1.9,2.05
  region: 2.65,1.9 2.05,1.9 2.05,1.6 2.65,1.6
  region: 2.65,1.4 2.05,1.4 2.05,1.1 2.65,1.1
  region: 2.65,0.9 2.05,0.9 2.05,0.6 2.65,0.6
  region: 2.65,0.4 2.05,0.4 2.05,0.1 2.65,0.1
  region: 2.65,-0.1 2.05,-0.1 2.05,-0.4 2.65,-0.4
  region: 2.65,-0.6 2.05,-0.6 2.05,-0.9 2.65,-0.9
  region: 2.65,-1.1 2.05,-1.1 2.05,-1.4 2.65,-1.4
  region: 2.65,-1.6 2.05,-1.6 2.05,-1.9 2.65,-1.9
  region: 1.9,-2.05 1.6,-2.05 1.6,-2.65 1.9,-2.65
  region: 1.4,-2.05 1.1,-2.05 1.1,-2.65 1.4,-2.65
  region: 0.9,-2.05 0.6,-2.05 0.6,-2.65 0.9,-2.65
  region: 0.4,-2.05 0.1,-2.05 0.1,-2.65 0.4,-2.65
  region: -0.1,-2.05 -0.4,-2.05 -0.4,-2.65 -0.1,-2.65
  region: -0.6,-2.05 -0.9,-2.05 -0.9,-2.65 -0.6,-2.65
  region: -1.1,-2.05 -1.4,-2.05 -1.4,-2.65 -1.1,-2.65
  region: -1.6,-2.05 -1.9,-2.05 -1.9,-2.65 -1.6,-2.65
  region: -2.05,-1.6 -2.65,-1.6 -2.65,-1.9 -2.05,-1.9
  region: -2.05,-1.1 -2.65,-1.1 -2.65,-1.4 -2.05,-1.4
  region: -2.05,-0.6 -2.65,-0.6 -2.65,-0.9 -2.05,-0.9
  region: -2.05,-0.1 -2.65,-0.1 -2.65,-0.4 -2.05,-0.4
  region: -2.05,0.4 -2.65,0.4 -2.65,0.1 -2.05,0.1
  region: -2.05,0.9 -2.65,0.9 -2.65,0.6 -2.05,0.6
  region: -2.05,1.4 -2.65,1.4 -2.65,1.1 -2.05,1.1
  region: -2.05,1.9 -2.65,1.9 -2.65,1.6 -2.05,1.6
Top Solder:
  region: -1.6,2.65 -1.9,2.65 -1.9,2.05 -1.6,2.05
  region: -1.1,2.65 -1.4,2.65 -1.4,2.05 -1.1,2.05
  region: -0.6,2.65 -0.9,2.65 -0.9,2.05 -0.6,2.05
  region: -0.1,2.65 -0.4,2.65 -0.4,2.05 -0.1,2.05
  region: 0.4,2.65 0.1,2.65 0.1,2.05 0.4,2.05
  region: 0.9,2.65 0.6,2.65 0.6,2.05 0.9,2.05
  region: 1.4,2.65 1.1,2.65 1.1,2.05 1.4,2.05
  region: 1.9,2.65 1.6,2.65 1.6,2.05 1.9,2.05
  region: 2.65,1.9 2.05,1.9 2.05,1.6 2.65,1.6
  region: 2.65,1.4 2.05,1.4 2.05,1.1 2.65,1.1
  region: 2.65,0.9 2.05,0.9 2.05,0.6 2.65,0.6
  region: 2.65,0.4 2.05,0.4 2.05,0.1 2.65,0.1
  region: 2.65,-0.1 2.05,-0.1 2.05,-0.4 2.65,-0.4
  region: 2.65,-0.6 2.05,-0.6 2.05,-0.9 2.65,-0.9
  region: 2.65,-1.1 2.05,-1.1 2.05,-1.4 2.65,-1.4
  region: 2.65,-1.6 2.05,-1.6 2.05,-1.9 2.65,-1.9
  region: 1.9,-2.05 1.6,-2.05 1.6,-2.65 1.9,-2.65
  region: 1.4,-2.05 1.1,-2.05 1.1,-2.65 1.4,-2.65
  region: 0.9,-2.05 0.6,-2.05 0.6,-2.65 0.9,-2.65
  region: 0.4,-2.05 0.1,-2.05 0.1,-2.65 0.4,-2.65
  region: -0.1,-2.05 -0.4,-2.05 -0.4,-2.65 -0.1,-2.65
  region: -0.6,-2.05 -0.9,-2.05 -0.9,-2.65 -0.6,-2.65
  region: -1.1,-2.05 -1.4,-2.05 -1.4,-2.65 -1.1,-2.65
  region: -1.6,-2.05 -1.9,-2.05 -1.9,-2.65 -1.6,-2.65
  region: -2.05,-1.6 -2.65,-1.6 -2.65,-1.9 -2.05,-1.9
  region: -2.05,-1.1 -2.65,-1.1 -2.65,-1.4 -2.05,-1.4
  region: -2.05,-0.6 -2.65,-0.6 -2.65,-0.9 -2.05,-0.9
  region: -2.05,-0.1 -2.65,-0.1 -2.65,-0.4 -2.05,-0.4
  region: -2.05,0.4 -2.65,0.4 -2.65,0.1 -2.05,0.1
  region: -2.05,0.9 -2.65,0.9 -2.65,0.6 -2.05,0.6
  region: -2.05,1.4 -2.65,1.4 -2.65,1.1 -2.05,1.1
  region: -2.05,1.9 -2.65,1.9 -2.65,1.6 -2.05,1.6
Mechanical 5:
  region: 3.285,-3.285 -3.285,-3.285 -3.285,3.285 3.285,3.285
Mechanical 7:
  lines w0.025: -6.206,-2.55 2.55,-2.55 ; -6.206,2.55 2.55,2.55 2.55,-6.056 ; -2.55,-6.056 -2.55,2.55 ; -2.35,1.75 -2.35,7.326 ; 1.75,-2.35 7.476,-2.35 ; 1.75,2.35 7.476,2.35 ; 2.35,1.25 5.571,1.25 ; 2.35,7.326 2.35,1.75 5.571,1.75 ; 5.19,-0.02 5.19,1.25 ; 5.19,3.02 5.19,1.75 ; -5.825,-2.55 -5.698,-2.296 -5.952,-2.296 -5.825,-2.55 ; -5.825,-2.55 -5.825,2.55 ; -5.825,2.55 -5.698,2.296 -5.952,2.296 -5.825,2.55 ; -2.55,-5.675 -2.296,-5.802 -2.296,-5.548 -2.55,-5.675 ; -2.55,-5.675 2.55,-5.675 ; -2.35,6.945 -2.096,6.818 -2.096,7.072 -2.35,6.945 ; -2.35,6.945 2.35,6.945 ; 2.35,6.945 2.096,6.818 2.096,7.072 2.35,6.945 ; 2.55,-5.675 2.296,-5.802 2.296,-5.548 2.55,-5.675 ; 5.19,1.25 5.317,0.996 5.063,0.996 5.19,1.25 ; 5.19,1.75 5.317,2.004 5.063,2.004 5.19,1.75 ; 7.095,-2.35 7.222,-2.096 6.968,-2.096 7.095,-2.35 ; 7.095,-2.35 7.095,2.35 ; 7.095,2.35 7.222,2.096 6.968,2.096 7.095,2.35
  text "0.201in/5.1mm" at -2.064,-6.818 h0.64
  text "0.201in/5.1mm" at -10.46,-0.318 h0.64
  text "0.185in/4.7mm" at 7.603,-0.318 h0.64
  text "0.185in/4.7mm" at -2.064,7.453 h0.64
  text "0.02in/0.5mm" at 5.698,1.182 h0.64
  text "Alt 2 Padstyle: OX60Y90D30P" at -8.572,-14.946 h1.27
  text "Alt 1 Padstyle: OX90Y60D30P" at -8.572,-13.422 h1.27
  text "Default Padstyle: RX23p62Y11p81D0T" at -10.795,-8.85 h1.27
Mechanical 13:
  lines w0.025: -2.55,1.28 -1.28,2.55 ; -2.55,-2.55 -2.55,2.55 2.55,2.55 2.55,-2.55 -2.55,-2.55
  text "*" at -2.114,1.365 h1.27
Mechanical 15:
  region: -2.154,-2.804 -2.804,-2.804 -2.804,-2.154 -2.904,-2.154 -2.904,2.154 -2.804,2.154 -2.804,2.804 -2.154,2.804 -2.154,2.904 2.154,2.904 2.154,2.804 2.804,2.804 2.804,2.154 2.904,2.154 2.904,-2.154 2.804,-2.154 2.804,-2.804 2.154,-2.804 2.154,-2.904 -2.154,-2.904
  lines w0.152: -2.904,-2.154 -2.904,2.154 -2.804,2.154 -2.804,2.804 -2.154,2.804 -2.154,2.904 2.154,2.904 2.154,2.804 2.804,2.804 2.804,2.154 2.904,2.154 2.904,-2.154 2.804,-2.154 2.804,-2.804 2.154,-2.804 2.154,-2.904 -2.154,-2.904 -2.154,-2.804 -2.804,-2.804 -2.804,-2.154 -2.904,-2.154
3D body: height 0.25, standoff 0, extent 0,0 0.254,0.254
3D body "UFQFPN-32.step": height 1.4, standoff 0, extent -2.601,-2.601 2.601,2.601

## WLCSP18 [mil] "STM32 package, WLCSP18, 1.86 x 2.14mm"
pads (18):
  round 9 smd paste+0 mask+0: A1(-23.62,31.5) A3(-7.87,31.5) A5(7.87,31.5) A7(23.62,31.5) B2(-15.75,15.75) B4(0,15.75) B6(15.75,15.75) C1(-23.62,0) C3(-7.87,0) C5(7.87,0) C7(23.62,0) D2(-15.75,-15.75) D4(0,-15.75) D6(15.75,-15.75) E1(-23.62,-31.5) E3(-7.87,-31.5) E5(7.87,-31.5) E7(23.62,-31.5)
Top Overlay:
  lines w6: -30.95,-47.5 -42,-47.5 -42,47.5 -30.95,47.5 ; 30.95,-47.5 42,-47.5 42,47.5 30.95,47.5
  text "7" at 48.62,67.5 h50
  text "1" at 1.38,67.5 h50
  text "E" at -87,-56.5 h50
  text "A" at -87,6.5 h50
Bottom Overlay:
  text "7" at -1.38,67.5 h50
  text "1" at -48.62,67.5 h50
  text "E" at -62,-56.5 h50
  text "A" at -62,6.5 h50
Keep-Out Layer:
  region: -45.06,-56.87 -45.06,56.87 45.06,56.87 45.06,-56.87
Mechanical 5:
  region: 52,-57.5 -52,-57.5 -52,57.5 52,57.5
Mechanical 7:
  lines w1: -87,117.5 -37,117.5 ; -37,0 -37,132.5 ; 0,-42.5 202,-42.5 ; 0,42.5 202,42.5 ; 23.62,15.75 127,15.75 ; 23.62,31.5 127,31.5 ; 37,0 37,132.5 ; 87,117.5 37,117.5 ; 112,-34.25 112,15.75 ; 112,81.5 112,31.5 ; 187,-92.5 187,-42.5 ; 187,92.5 187,42.5 ; -37,117.5 -47,112.5 -47,122.5 -37,117.5 ; 37,117.5 47,112.5 47,122.5 37,117.5 ; 112,15.75 117,5.75 107,5.75 112,15.75 ; 112,31.5 117,41.5 107,41.5 112,31.5 ; 187,-42.5 192,-52.5 182,-52.5 187,-42.5 ; 187,42.5 192,52.5 182,52.5 187,42.5
  text "0.085in/2.159mm" at 207,-12.5 h25
  text "0.074in/1.88mm" at -87.5,137.5 h25
  text "0.016in/0.4mm" at 132,11.12 h25
  text "Default Padstyle: EX9Y9D0T" at -325,-242.5 h50
Mechanical 13:
  lines w1: -37,34.63 -33.06,42.5 ; -37,-42.5 -37,42.5 37,42.5 37,-42.5 -37,-42.5
  text "7" at 48.62,67.5 h50
  text "1" at 1.38,67.5 h50
  text "E" at -87,-56.5 h50
  text "A" at -87,6.5 h50
Mechanical 15:
  region: 47,-52.5 -47,-52.5 -47,52.5 47,52.5
  lines w6: -47,-52.5 47,-52.5 47,52.5 -47,52.5 -47,-52.5
3D body: height 10, standoff 0, extent 0,0 10,10
3D body "WLCSP18.step": height 23.11, standoff -0.01, extent -37,-42.51 37.01,42.52

## WLCSP25 [mil] "STM32 package, WLCSP25, 2.3 x 2.5mm"
pads (25):
  round 9 smd paste+0 mask+0: A1(-31.5,31.5) A2(-15.75,31.5) A3(0,31.5) A4(15.75,31.5) A5(31.5,31.5) B1(-31.5,15.75) B2(-15.75,15.75) B3(0,15.75) B4(15.75,15.75) B5(31.5,15.75) C1(-31.5,0) C2(-15.75,0) C3(0,0) C4(15.75,0) C5(31.5,0) D1(-31.5,-15.75) D2(-15.75,-15.75) D3(0,-15.75) D4(15.75,-15.75) D5(31.5,-15.75) E1(-31.5,-31.5) E2(-15.75,-31.5) E3(0,-31.5) E4(15.75,-31.5) E5(31.5,-31.5)
Top Overlay:
  lines w6: -53.5,-51.5 53.5,-51.5 53.5,51.5 -53.5,51.5 -53.5,-51.5
  text "A" at -98.5,6.5 h50
  text "E" at -98.5,-56.5 h50
  text "1" at -6.5,71.5 h50
  text "5" at 56.5,71.5 h50
Bottom Overlay:
  text "A" at -73.5,6.5 h50
  text "E" at -73.5,-56.5 h50
  text "1" at -56.5,71.5 h50
  text "5" at 6.5,71.5 h50
Keep-Out Layer:
  region: -56.87,-56.87 -56.87,56.87 56.87,56.87 56.87,-56.87
Mechanical 5:
  region: 63.5,-61.5 -63.5,-61.5 -63.5,61.5 63.5,61.5
Mechanical 7:
  lines w1: -98.5,121.5 -48.5,121.5 ; -48.5,0 -48.5,136.5 ; 0,-46.5 213.5,-46.5 ; 0,46.5 213.5,46.5 ; 31.5,15.75 138.5,15.75 ; 31.5,31.5 138.5,31.5 ; 48.5,0 48.5,136.5 ; 98.5,121.5 48.5,121.5 ; 123.5,-34.25 123.5,15.75 ; 123.5,81.5 123.5,31.5 ; 198.5,-96.5 198.5,-46.5 ; 198.5,96.5 198.5,46.5 ; -48.5,121.5 -58.5,126.5 -58.5,116.5 -48.5,121.5 ; 48.5,121.5 58.5,126.5 58.5,116.5 48.5,121.5 ; 123.5,15.75 118.5,5.75 128.5,5.75 123.5,15.75 ; 123.5,31.5 118.5,41.5 128.5,41.5 123.5,31.5 ; 198.5,-46.5 193.5,-56.5 203.5,-56.5 198.5,-46.5 ; 198.5,46.5 193.5,56.5 203.5,56.5 198.5,46.5
  text "Default Padstyle: EX9Y9D0TA" at -337.5,-246.5 h50
  text "0.016in/0.4mm" at 143.5,11.12 h25
  text "0.097in/2.464mm" at -93.75,141.5 h25
  text "0.093in/2.362mm" at 218.5,-12.5 h25
Mechanical 13:
  lines w1: -48.5,38.63 -40.63,46.5 ; -48.5,-46.5 48.5,-46.5 48.5,46.5 -48.5,46.5 -48.5,-46.5
  text "A" at -98.5,6.5 h50
  text "E" at -98.5,-56.5 h50
  text "1" at -6.5,71.5 h50
  text "5" at 56.5,71.5 h50
Mechanical 15:
  region: 58.5,-56.5 -58.5,-56.5 -58.5,56.5 58.5,56.5
  lines w6: -58.5,-56.5 -58.5,56.5 58.5,56.5 58.5,-56.5 -58.5,-56.5
3D body "WLCSP25.step": height 23.11, standoff -0.01, extent -48.5,-46.49 48.51,46.5